# Altium footprint library R_C_L_D.PcbLib: 51 footprints (part 3 of 4)
Each footprint in its own frame and in the unit in brackets; x right, y up, seen from the top. Pads: shape width x height; smd on the part's side, far side on the other; paste and mask are expansions set on the pad; w line width, h text height; cw(c..) or ccw(c..) is an arc to the next point about the centre after c.
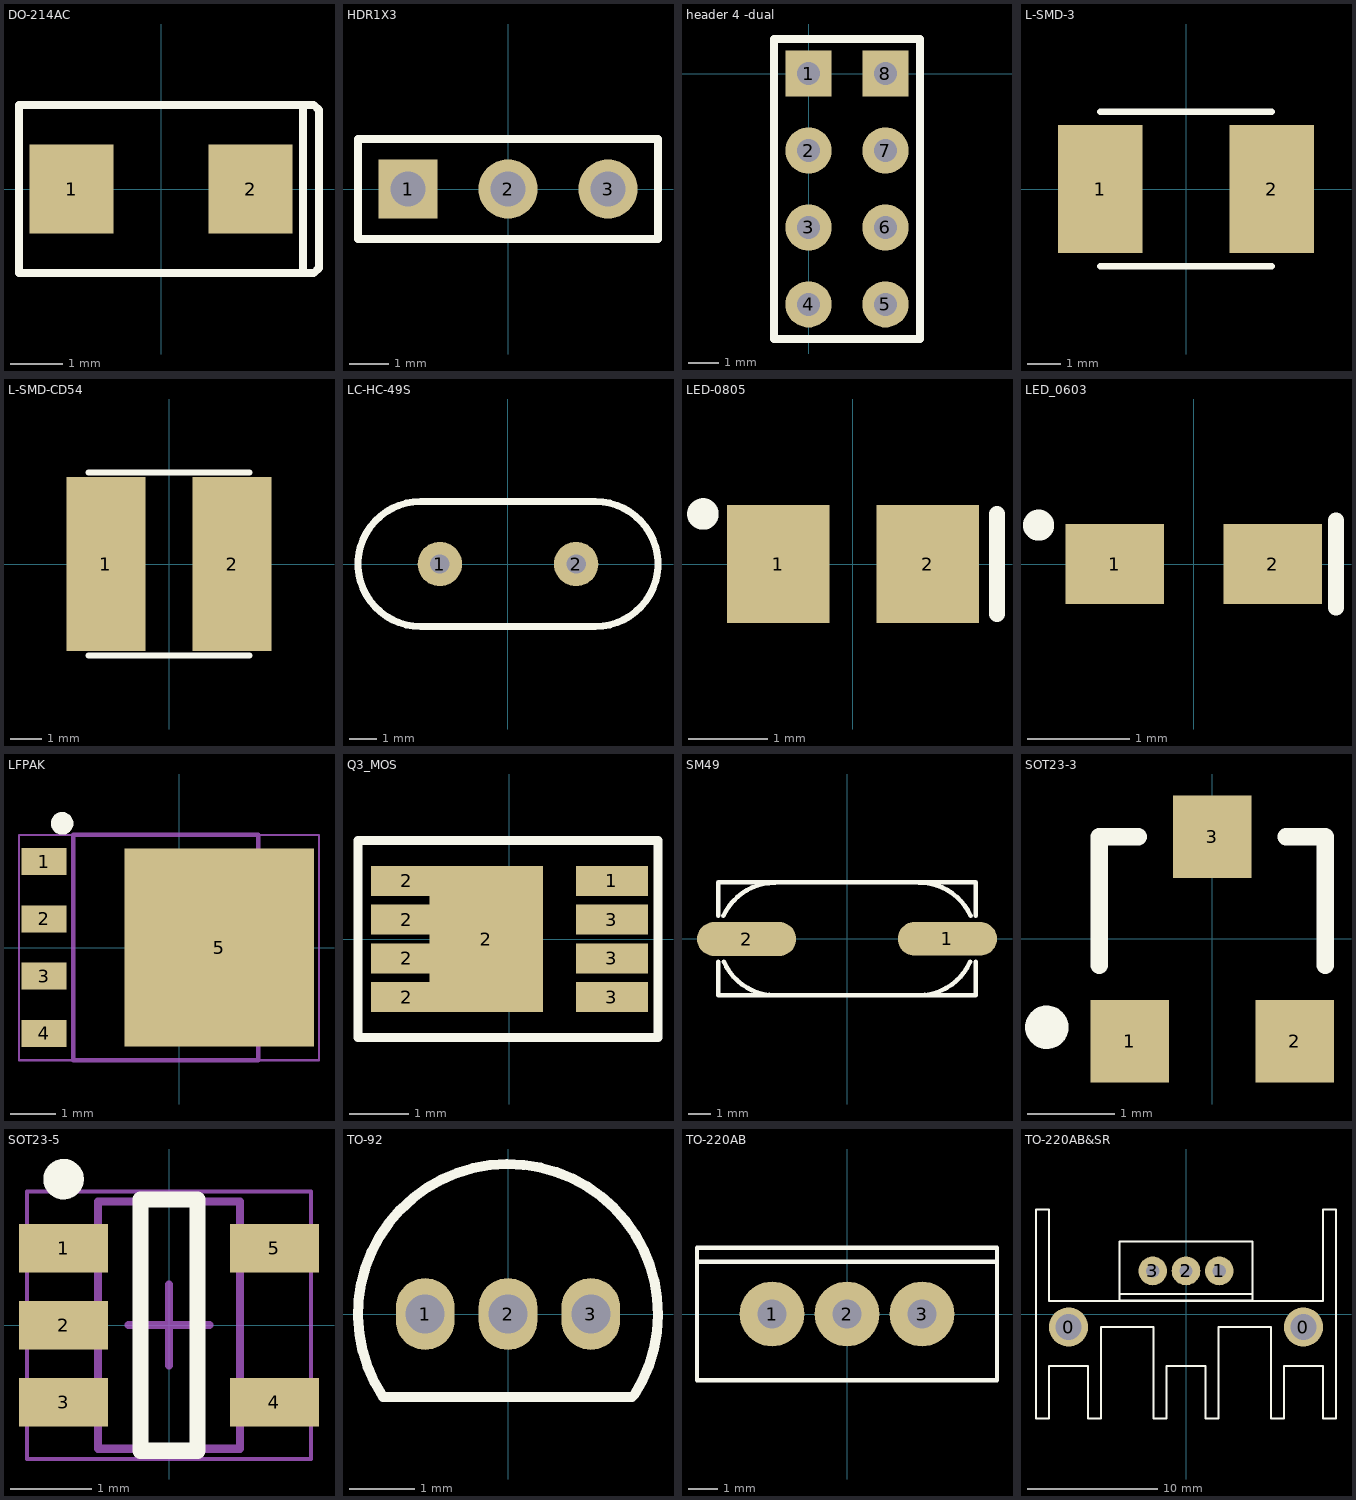
[diagram p2: the footprints below, top view; thin cyan lines are the x and y axes]

## DO-214AC [mm]
pads (2):
  rect 1.6x1.7 smd: 1(-1.7,0) 2(1.7,0)
Top Overlay:
  lines w0.152: 2.7,-1.6 2.9,-1.6 3,-1.5 3,1.3 3,1.5 2.9,1.6 2.7,1.6 ; 2.7,-1.6 2.7,1.6 ; 2.7,-1.6 -2.7,-1.6 -2.7,1.6 2.7,1.6

## HDR1X3 [mm] "Connector; Header; 3 Position"
pads (3):
  rect 1.5x1.5 hole 0.9: 1(-2.54,0)
  round 1.5 hole 0.9: 2(0,0) 3(2.54,0)
Top Overlay:
  lines w0.2: -3.81,-1.27 3.81,-1.27 3.81,1.27 -3.81,1.27 -3.81,-1.27

## header 4 -dual [mil] "排针单排4针 双列"
pads (8):
  rect 60x60 hole 30: 1(0,0) 8(100,0)
  round 60 hole 30: 2(0,-100) 3(0,-200) 4(0,-300) 5(100,-300) 6(100,-200) 7(100,-100)
Top Overlay:
  lines w10: -45,-345 145,-345 145,45 -45,45 -45,-345

## L-SMD-3 [mm] "贴片电感3.8 CD32"
pads (2):
  rect 2.5x3.8 smd: 1(-2.54,0) 2(2.54,0)
Top Overlay:
  lines w0.2: -2.54,-2.286 2.54,-2.286 ; -2.54,2.286 2.54,2.286
3D body: height 4, standoff 0, extent -2.54,-1.905 2.54,1.905

## L-SMD-CD54 [mm] "贴片电感CD54"
pads (2):
  rect 2.5x5.5 smd: 1(-2,0) 2(2,0)
Top Overlay:
  lines w0.2: -2.54,-2.9 2.54,-2.9 ; -2.54,2.9 2.54,2.9
3D body: height 4, standoff 0, extent -3.175,-3.048 3.175,3.048

## LC-HC-49S [mm]
pads (2):
  round 1.6 hole 0.7: 1(-2.45,0) 2(2.45,0)
Top Overlay:
  lines w0.254: -3.15,-2.248 cw(c-3.15,0) -3.15,2.248 3.15,2.248 cw(c3.15,0) 3.15,-2.248 -3.15,-2.248
3D body: height 3.6, standoff -2.9, extent -5.388,-2.27 5.412,2.23

## LED-0805 [mm] "贴片LED"
height 1.1
pads (2):
  rect 1.3x1.5 smd: 1(-0.95,0) 2(0.95,0)
Top Overlay:
  circle w0.25: c-1.905,0.635 r0.075
  lines w0.2: 1.829,-0.635 1.829,0.635

## LED_0603 [mil] "[2.54*0.8]mm"
pads (2):
  rect 38x31 smd: 1(-30.5,0) 2(30.5,0)
Top Overlay:
  circle w10: c-60,15 r1
  lines w6: 55,-17 55,17

## LFPAK [mm] "SOT669"
height 1.2
pads (5):
  rect 1x0.6 smd: 1(-3,1.905) 2(-3,0.635) 3(-3,-0.635) 4(-3,-1.905)
  rect 4.2x4.4 smd: 5(0.889,0)
Top Overlay:
  circle w0.25: c-2.6,2.755 r0.125
Mechanical 13:
  lines w0.1: -2.35,-2.5 1.75,-2.5 1.75,2.5 -2.35,2.5 -2.35,-2.5
Mechanical 15:
  lines w0.05: -3.556,-2.5 3.1,-2.5 3.1,2.5 -3.556,2.5 -3.556,-2.5
  lines w0.1: -0.5,0 0.5,0 ; 0,-0.5 0,0.5
3D body: height 1.2, standoff 0.15, extent -2.35,-2.5 1.75,2.5

## Q3_MOS [mm]
pads (9):
  rect 1.2x0.5 smd: 1(1.72,0.975) 2(-1.72,-0.975) 2(-1.72,-0.325) 2(-1.72,0.325) 2(-1.72,0.975) 3(1.72,-0.975) 3(1.72,-0.325) 3(1.72,0.325)
  rect 1.9x2.45 smd: 2(-0.39,0)
Top Overlay:
  lines w0.152: -2.54,-1.65 -2.54,1.65 2.492,1.65 2.492,-1.65 -2.54,-1.65

## SM49 [mm]
height 14.8
pads (2):
  oval 4.4x1.5 smd: 1(4.45,0.004) 2(-4.45,-0.004)
Top Overlay:
  lines w0.2: -5.7,-2.499 5.718,-2.499 ; -5.7,-2.496 -5.7,-1.016 ; -5.7,1.016 -5.7,2.504 5.718,2.504 5.718,1.016 ; -5.477,1.023 cw(c-3.202,-0.013) -3.175,2.487 ; -5.461,-1.016 ccw(c-3.176,-0.001) -3.176,-2.501 ; 3.175,-2.5 ccw(c3.175,0) 5.46,-1.015 ; 3.175,2.496 cw(c3.202,-0.004) 5.48,1.025 ; 5.718,-2.496 5.718,-1.016

## SOT23-3 [mm]
height 1.1
pads (3):
  rect 0.9x0.95 smd: 1(-0.95,-1.175) 2(0.95,-1.175) 3(0,1.175)
Top Overlay:
  circle w0.25: c-1.903,-1.016 r0.125
  lines w0.2: -1.3,-0.3 -1.3,1.175 -0.85,1.175 ; 0.85,1.175 1.3,1.175 1.3,-0.3
3D body: height 1.2, standoff 0, extent -1.45,-1.4 1.45,1.4

## SOT23-5 [mm] "SOT23, 5"
height 1.45
pads (5):
  rect 1.1x0.6 smd: 1(-1.3,0.95) 2(-1.3,0) 3(-1.3,-0.95) 4(1.3,-0.95) 5(1.3,0.95)
Top Overlay:
  circle w0.25: c-1.3,1.8 r0.125
  lines w0.2: -0.35,-1.55 -0.35,1.55 0.35,1.55 0.35,-1.55 -0.35,-1.55
Mechanical 13:
  lines w0.1: -0.875,-1.525 0.875,-1.525 0.875,1.525 -0.875,1.525 -0.875,-1.525
Mechanical 15:
  lines w0.05: -1.75,-1.65 1.75,-1.65 1.75,1.65 -1.75,1.65 -1.75,-1.65
  lines w0.1: -0.5,0 0.5,0 ; 0,-0.5 0,0.5
3D body: height 1.45, standoff 0.25, extent -0.875,-1.525 0.875,1.525

## TO-92 [mm]
pads (3):
  oval 0.9x1.1 hole 0.6: 1(-1.27,0) 2(0,0) 3(1.27,0)
Top Overlay:
  lines w0.152: 1.903,-1.276 -1.914,-1.276 cw(c0,0) 1.935,-1.244

## TO-220AB [mm]
pads (3):
  round 2.2 hole 1: 1(-2.55,0) 2(0,0) 3(2.55,0)
Top Overlay:
  lines w0.152: -5.1,1.778 5.1,1.778 ; -5.1,-2.25 -5.1,2.25 5.1,2.25 5.1,-2.25 -5.1,-2.25

## TO-220AB&SR [mm] "带散热"
pads (5):
  round 3 hole 2: 0(-9,-1) 0(9,-1)
  round 2.2 hole 1: 1(2.55,3.302) 2(0,3.302) 3(-2.55,3.302)
Top Overlay:
  lines w0.152: -5.1,1.524 5.1,1.524 ; -11.5,-8 -11.5,8 -10.5,8 -10.5,1 10.5,1 10.5,8 11.5,8 11.5,-8 10.5,-8 10.5,-4 7.5,-4 7.5,-8 6.5,-8 6.5,-1 2.5,-1 2.5,-8 1.5,-8 1.5,-4 -1.5,-4 -1.5,-8 -2.5,-8 -2.5,-1 -6.5,-1 -6.5,-8 -7.5,-8 -7.5,-4 -10.5,-4 -10.5,-8 -11.5,-8 ; -5.1,1.052 5.1,1.052 5.1,5.552 -5.1,5.552 -5.1,1.052